# EAGLE library part XKT-510 (library my_ic)
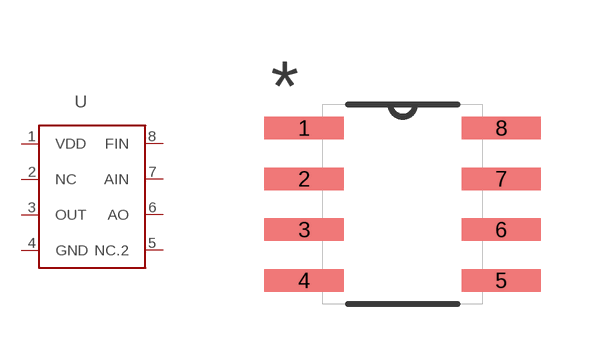
[diagram p23: symbol with the pads of SOIC-8; footprint SOIC-8]

Designator prefix -

## XKT-510  [SOIC-8]
1  VDD
2  NC
3  OUT
4  GND
5  NC.2
6  AO
7  AIN
8  FIN

## Footprint SOIC-8 (pad centres in mm)
smd 1.981 x 0.559: 1 -2.464,1.905; 2 -2.464,0.635; 3 -2.464,-0.635; 4 -2.464,-1.905; 5 2.464,-1.905; 6 2.464,-0.635; 7 2.464,0.635; 8 2.464,1.905